# Altium integrated library Analog Devices Operational Amplifiers.IntLib: 2102 symbols (part 36 of 70)
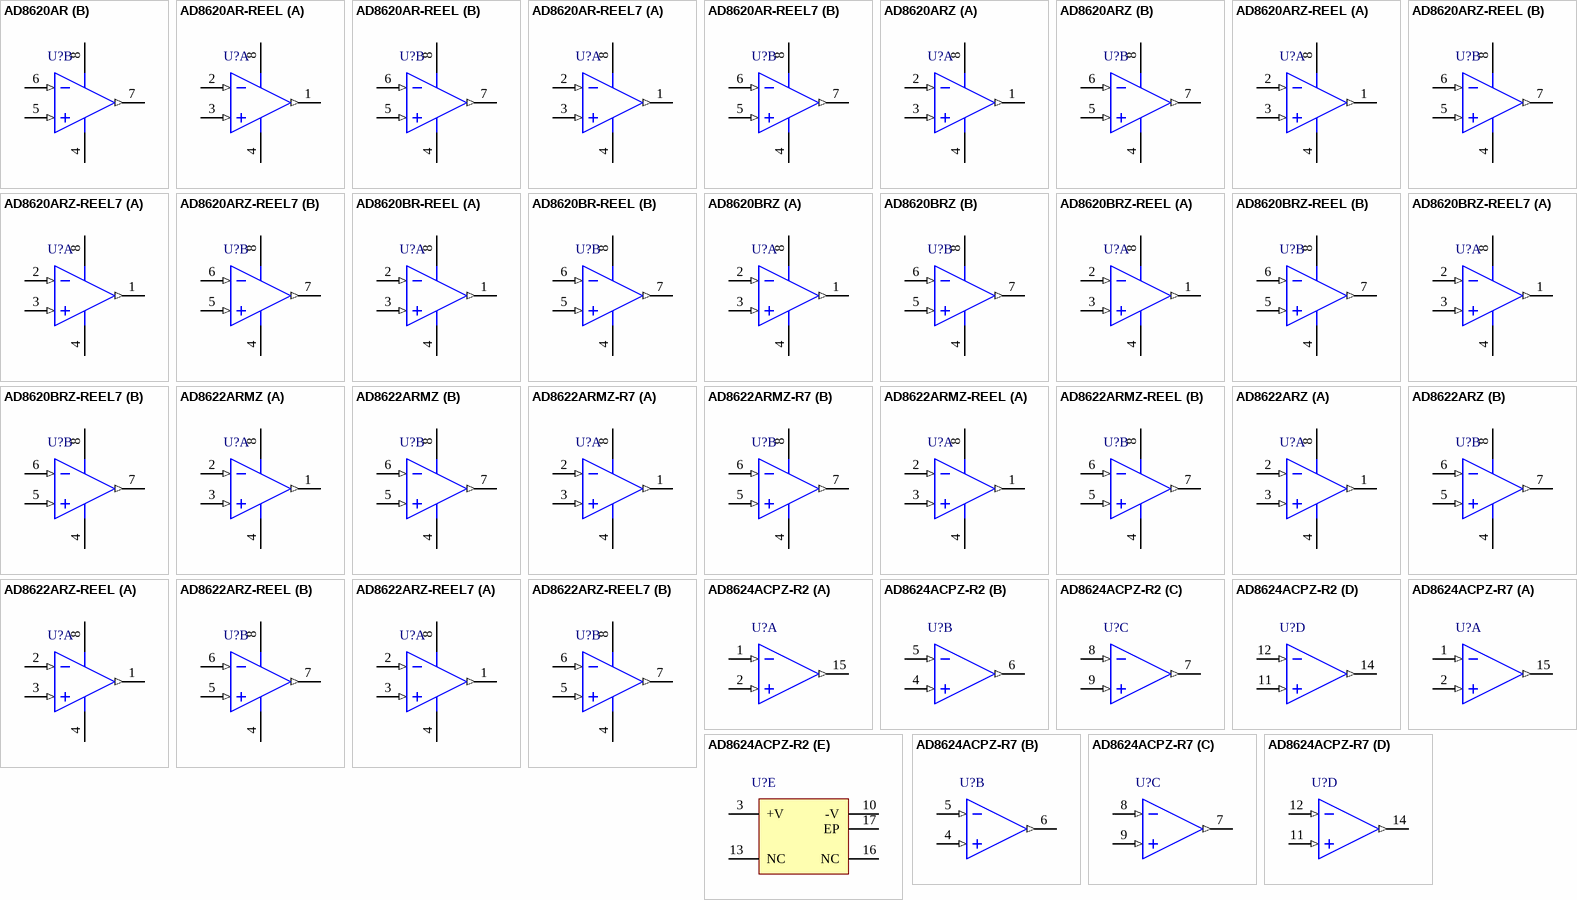
[diagram p149: symbols AD8620AR to AD8624ACPZ-R7]

## AD8620AR-REEL
designator U?
Double Channel Low Offset Voltage Operational Amplifier, 25 MHz BW, 50 V/us SR, Industrial, 8-pin SOIC (R-8), Reel; Generic Part Number: AD8620; Manufacturer: Analog Devices; PartNumber: AD8620AR-REEL; Amplifiers Per Package: 2; Input Bias Current: 2pA; Input Offset Voltage: 85uV; Iq/Amp: 3.5mA; Slew Rate: 50V/us; Small Signal Bandwidth: 25MHz; V Span Max: 27V; V Span Min: 10V; DatasheetVersion: Rev. F; PackageVersion: 060506-A; PackageReference: R-8; PackageDescription: 8-Pin Standard Small Outline Package, Body 3.9 x 4.9 mm, Pitch 1.27 mm; Supplier 1: Digi-Key; Supplier Part Number 1: AD8620AR-REEL-ND; Supplier 2: Newark; Supplier Part Number 2: 02H2009; Mounting Technology: Surface Mount; Code_JEDEC: MS-012-AA; ComponentLink1Description: Manufacturer URL; ComponentLink1URL: http://www.analog.com/en/index.html; ComponentLink2Description: Datasheet; ComponentLink2URL: http://www.analog.com/static/imported-files/data_sheets/AD8610_8620.pdf; ComponentLink3Description: Package Specification; ComponentLink3URL: http://www.analog.com/static/imported-files/packages/PKG_PDF/SOIC_Narrow%20(R)/R_8.pdf; ComponentLink4Description: Reference Circuit; ComponentLink4URL: http://www.analog.com/en/all-operational-amplifiers-op-amps/operational-amplifiers-op-amps/ad8620/products/product.html#product-recommendations
footprint ADI-R-8_N (SOIC, 8-Leads, Body 4.9x3.9mm, Pitch 1.27mm, IPC Medium Density)
footprint ADI-R-8_L (SOIC, 8-Leads, Body 4.9x3.9mm, Pitch 1.27mm, IPC High Density)
footprint ADI-R-8_M (SOIC, 8-Leads, Body 4.9x3.9mm, Pitch 1.27mm, IPC Low Density)
pins on every part: 4 -V (power), 8 +V (power)
part A pins: 1 OUT A (out), 2 -IN A (in), 3 +IN A (in)
part B pins: 5 +IN B (in), 6 -IN B (in), 7 OUT B (out)

## AD8620AR-REEL7
designator U?
Double Channel Low Offset Voltage Operational Amplifier, 25 MHz BW, 50 V/us SR, Industrial, 8-pin SOIC (R-8), Reel; Generic Part Number: AD8620; Manufacturer: Analog Devices; PartNumber: AD8620AR-REEL7; Amplifiers Per Package: 2; Input Bias Current: 2pA; Input Offset Voltage: 85uV; Iq/Amp: 3.5mA; Slew Rate: 50V/us; Small Signal Bandwidth: 25MHz; V Span Max: 27V; V Span Min: 10V; DatasheetVersion: Rev. F; PackageVersion: 060506-A; PackageReference: R-8; PackageDescription: 8-Pin Standard Small Outline Package, Body 3.9 x 4.9 mm, Pitch 1.27 mm; Supplier 1: Digi-Key; Supplier Part Number 1: AD8620AR-REEL7-ND; Mounting Technology: Surface Mount; Code_JEDEC: MS-012-AA; ComponentLink1Description: Manufacturer URL; ComponentLink1URL: http://www.analog.com/en/index.html; ComponentLink2Description: Datasheet; ComponentLink2URL: http://www.analog.com/static/imported-files/data_sheets/AD8610_8620.pdf; ComponentLink3Description: Package Specification; ComponentLink3URL: http://www.analog.com/static/imported-files/packages/PKG_PDF/SOIC_Narrow%20(R)/R_8.pdf; ComponentLink4Description: Reference Circuit; ComponentLink4URL: http://www.analog.com/en/all-operational-amplifiers-op-amps/operational-amplifiers-op-amps/ad8620/products/product.html#product-recommendations
footprint ADI-R-8_N (SOIC, 8-Leads, Body 4.9x3.9mm, Pitch 1.27mm, IPC Medium Density)
footprint ADI-R-8_L (SOIC, 8-Leads, Body 4.9x3.9mm, Pitch 1.27mm, IPC High Density)
footprint ADI-R-8_M (SOIC, 8-Leads, Body 4.9x3.9mm, Pitch 1.27mm, IPC Low Density)
pins on every part: 4 -V (power), 8 +V (power)
part A pins: 1 OUT A (out), 2 -IN A (in), 3 +IN A (in)
part B pins: 5 +IN B (in), 6 -IN B (in), 7 OUT B (out)

## AD8620ARZ
designator U?
Double Channel Low Offset Voltage Operational Amplifier, 25 MHz BW, 50 V/us SR, Industrial, 8-pin SOIC (R-8), Tube; Generic Part Number: AD8620; Manufacturer: Analog Devices; PartNumber: AD8620ARZ; Amplifiers Per Package: 2; Input Bias Current: 2pA; Input Offset Voltage: 85uV; Iq/Amp: 3.5mA; Slew Rate: 50V/us; Small Signal Bandwidth: 25MHz; V Span Max: 27V; V Span Min: 10V; DatasheetVersion: Rev. F; PackageVersion: 060506-A; PackageReference: R-8; PackageDescription: 8-Pin Standard Small Outline Package, Body 3.9 x 4.9 mm, Pitch 1.27 mm; Supplier 1: Digi-Key; Supplier Part Number 1: AD8620ARZ-ND; Supplier 2: Farnell; Supplier Part Number 2: 9994386; Supplier 3: Newark; Supplier Part Number 3: 59K6972; Mounting Technology: Surface Mount; Code_JEDEC: MS-012-AA; ComponentLink1Description: Manufacturer URL; ComponentLink1URL: http://www.analog.com/en/index.html; ComponentLink2Description: Datasheet; ComponentLink2URL: http://www.analog.com/static/imported-files/data_sheets/AD8610_8620.pdf; ComponentLink3Description: Package Specification; ComponentLink3URL: http://www.analog.com/static/imported-files/packages/PKG_PDF/SOIC_Narrow%20(R)/R_8.pdf; ComponentLink4Description: Reference Circuit; ComponentLink4URL: http://www.analog.com/en/all-operational-amplifiers-op-amps/operational-amplifiers-op-amps/ad8620/products/product.html#product-recommendations
footprint ADI-R-8_N (SOIC, 8-Leads, Body 4.9x3.9mm, Pitch 1.27mm, IPC Medium Density)
footprint ADI-R-8_L (SOIC, 8-Leads, Body 4.9x3.9mm, Pitch 1.27mm, IPC High Density)
footprint ADI-R-8_M (SOIC, 8-Leads, Body 4.9x3.9mm, Pitch 1.27mm, IPC Low Density)
pins on every part: 4 -V (power), 8 +V (power)
part A pins: 1 OUT A (out), 2 -IN A (in), 3 +IN A (in)
part B pins: 5 +IN B (in), 6 -IN B (in), 7 OUT B (out)

## AD8620ARZ-REEL
designator U?
Double Channel Low Offset Voltage Operational Amplifier, 25 MHz BW, 50 V/us SR, Industrial, 8-pin SOIC (R-8), Reel; Generic Part Number: AD8620; Manufacturer: Analog Devices; PartNumber: AD8620ARZ-REEL; Amplifiers Per Package: 2; Input Bias Current: 2pA; Input Offset Voltage: 85uV; Iq/Amp: 3.5mA; Slew Rate: 50V/us; Small Signal Bandwidth: 25MHz; V Span Max: 27V; V Span Min: 10V; DatasheetVersion: Rev. F; PackageVersion: 060506-A; PackageReference: R-8; PackageDescription: 8-Pin Standard Small Outline Package, Body 3.9 x 4.9 mm, Pitch 1.27 mm; Supplier 1: Digi-Key; Supplier Part Number 1: AD8620ARZ-REEL-ND; Supplier 2: Newark; Supplier Part Number 2: 59K6973; Mounting Technology: Surface Mount; Code_JEDEC: MS-012-AA; ComponentLink1Description: Manufacturer URL; ComponentLink1URL: http://www.analog.com/en/index.html; ComponentLink2Description: Datasheet; ComponentLink2URL: http://www.analog.com/static/imported-files/data_sheets/AD8610_8620.pdf; ComponentLink3Description: Package Specification; ComponentLink3URL: http://www.analog.com/static/imported-files/packages/PKG_PDF/SOIC_Narrow%20(R)/R_8.pdf; ComponentLink4Description: Reference Circuit; ComponentLink4URL: http://www.analog.com/en/all-operational-amplifiers-op-amps/operational-amplifiers-op-amps/ad8620/products/product.html#product-recommendations
footprint ADI-R-8_N (SOIC, 8-Leads, Body 4.9x3.9mm, Pitch 1.27mm, IPC Medium Density)
footprint ADI-R-8_L (SOIC, 8-Leads, Body 4.9x3.9mm, Pitch 1.27mm, IPC High Density)
footprint ADI-R-8_M (SOIC, 8-Leads, Body 4.9x3.9mm, Pitch 1.27mm, IPC Low Density)
pins on every part: 4 -V (power), 8 +V (power)
part A pins: 1 OUT A (out), 2 -IN A (in), 3 +IN A (in)
part B pins: 5 +IN B (in), 6 -IN B (in), 7 OUT B (out)

## AD8620ARZ-REEL7
designator U?
Double Channel Low Offset Voltage Operational Amplifier, 25 MHz BW, 50 V/us SR, Industrial, 8-pin SOIC (R-8), Reel; Generic Part Number: AD8620; Manufacturer: Analog Devices; PartNumber: AD8620ARZ-REEL7; Amplifiers Per Package: 2; Input Bias Current: 2pA; Input Offset Voltage: 85uV; Iq/Amp: 3.5mA; Slew Rate: 50V/us; Small Signal Bandwidth: 25MHz; V Span Max: 27V; V Span Min: 10V; DatasheetVersion: Rev. F; PackageVersion: 060506-A; PackageReference: R-8; PackageDescription: 8-Pin Standard Small Outline Package, Body 3.9 x 4.9 mm, Pitch 1.27 mm; Supplier 1: Digi-Key; Supplier Part Number 1: AD8620ARZ-REEL7-ND; Supplier 2: Newark; Supplier Part Number 2: 59K6974; Mounting Technology: Surface Mount; Code_JEDEC: MS-012-AA; ComponentLink1Description: Manufacturer URL; ComponentLink1URL: http://www.analog.com/en/index.html; ComponentLink2Description: Datasheet; ComponentLink2URL: http://www.analog.com/static/imported-files/data_sheets/AD8610_8620.pdf; ComponentLink3Description: Package Specification; ComponentLink3URL: http://www.analog.com/static/imported-files/packages/PKG_PDF/SOIC_Narrow%20(R)/R_8.pdf; ComponentLink4Description: Reference Circuit; ComponentLink4URL: http://www.analog.com/en/all-operational-amplifiers-op-amps/operational-amplifiers-op-amps/ad8620/products/product.html#product-recommendations
footprint ADI-R-8_N (SOIC, 8-Leads, Body 4.9x3.9mm, Pitch 1.27mm, IPC Medium Density)
footprint ADI-R-8_L (SOIC, 8-Leads, Body 4.9x3.9mm, Pitch 1.27mm, IPC High Density)
footprint ADI-R-8_M (SOIC, 8-Leads, Body 4.9x3.9mm, Pitch 1.27mm, IPC Low Density)
pins on every part: 4 -V (power), 8 +V (power)
part A pins: 1 OUT A (out), 2 -IN A (in), 3 +IN A (in)
part B pins: 5 +IN B (in), 6 -IN B (in), 7 OUT B (out)

## AD8620BR-REEL
designator U?
Double Channel Low Offset Voltage Operational Amplifier, 25 MHz BW, 50 V/us SR, Industrial, 8-pin SOIC (R-8), Reel; Generic Part Number: AD8620; Manufacturer: Analog Devices; PartNumber: AD8620BR-REEL; Amplifiers Per Package: 2; Input Bias Current: 2pA; Input Offset Voltage: 85uV; Iq/Amp: 3.5mA; Slew Rate: 50V/us; Small Signal Bandwidth: 25MHz; V Span Max: 27V; V Span Min: 10V; DatasheetVersion: Rev. F; PackageVersion: 060506-A; PackageReference: R-8; PackageDescription: 8-Pin Standard Small Outline Package, Body 3.9 x 4.9 mm, Pitch 1.27 mm; Supplier 1: Digi-Key; Supplier Part Number 1: AD8620BR-REEL-ND; Supplier 2: Newark; Supplier Part Number 2: 50H3283; Mounting Technology: Surface Mount; Code_JEDEC: MS-012-AA; ComponentLink1Description: Manufacturer URL; ComponentLink1URL: http://www.analog.com/en/index.html; ComponentLink2Description: Datasheet; ComponentLink2URL: http://www.analog.com/static/imported-files/data_sheets/AD8610_8620.pdf; ComponentLink3Description: Package Specification; ComponentLink3URL: http://www.analog.com/static/imported-files/packages/PKG_PDF/SOIC_Narrow%20(R)/R_8.pdf; ComponentLink4Description: Reference Circuit; ComponentLink4URL: http://www.analog.com/en/all-operational-amplifiers-op-amps/operational-amplifiers-op-amps/ad8620/products/product.html#product-recommendations
footprint ADI-R-8_N (SOIC, 8-Leads, Body 4.9x3.9mm, Pitch 1.27mm, IPC Medium Density)
footprint ADI-R-8_L (SOIC, 8-Leads, Body 4.9x3.9mm, Pitch 1.27mm, IPC High Density)
footprint ADI-R-8_M (SOIC, 8-Leads, Body 4.9x3.9mm, Pitch 1.27mm, IPC Low Density)
pins on every part: 4 -V (power), 8 +V (power)
part A pins: 1 OUT A (out), 2 -IN A (in), 3 +IN A (in)
part B pins: 5 +IN B (in), 6 -IN B (in), 7 OUT B (out)

## AD8620BRZ
designator U?
Double Channel Low Offset Voltage Operational Amplifier, 25 MHz BW, 50 V/us SR, Industrial, 8-pin SOIC (R-8), Tube; Generic Part Number: AD8620; Manufacturer: Analog Devices; PartNumber: AD8620BRZ; Amplifiers Per Package: 2; Input Bias Current: 2pA; Input Offset Voltage: 85uV; Iq/Amp: 3.5mA; Slew Rate: 50V/us; Small Signal Bandwidth: 25MHz; V Span Max: 27V; V Span Min: 10V; DatasheetVersion: Rev. F; PackageVersion: 060506-A; PackageReference: R-8; PackageDescription: 8-Pin Standard Small Outline Package, Body 3.9 x 4.9 mm, Pitch 1.27 mm; Supplier 1: Digi-Key; Supplier Part Number 1: AD8620BRZ-ND; Supplier 2: Newark; Supplier Part Number 2: 59K6975; Mounting Technology: Surface Mount; Code_JEDEC: MS-012-AA; ComponentLink1Description: Manufacturer URL; ComponentLink1URL: http://www.analog.com/en/index.html; ComponentLink2Description: Datasheet; ComponentLink2URL: http://www.analog.com/static/imported-files/data_sheets/AD8610_8620.pdf; ComponentLink3Description: Package Specification; ComponentLink3URL: http://www.analog.com/static/imported-files/packages/PKG_PDF/SOIC_Narrow%20(R)/R_8.pdf; ComponentLink4Description: Reference Circuit; ComponentLink4URL: http://www.analog.com/en/all-operational-amplifiers-op-amps/operational-amplifiers-op-amps/ad8620/products/product.html#product-recommendations
footprint ADI-R-8_N (SOIC, 8-Leads, Body 4.9x3.9mm, Pitch 1.27mm, IPC Medium Density)
footprint ADI-R-8_L (SOIC, 8-Leads, Body 4.9x3.9mm, Pitch 1.27mm, IPC High Density)
footprint ADI-R-8_M (SOIC, 8-Leads, Body 4.9x3.9mm, Pitch 1.27mm, IPC Low Density)
pins on every part: 4 -V (power), 8 +V (power)
part A pins: 1 OUT A (out), 2 -IN A (in), 3 +IN A (in)
part B pins: 5 +IN B (in), 6 -IN B (in), 7 OUT B (out)

## AD8620BRZ-REEL
designator U?
Double Channel Low Offset Voltage Operational Amplifier, 25 MHz BW, 50 V/us SR, Industrial, 8-pin SOIC (R-8), Reel; Generic Part Number: AD8620; Manufacturer: Analog Devices; PartNumber: AD8620BRZ-REEL; Amplifiers Per Package: 2; Input Bias Current: 2pA; Input Offset Voltage: 85uV; Iq/Amp: 3.5mA; Slew Rate: 50V/us; Small Signal Bandwidth: 25MHz; V Span Max: 27V; V Span Min: 10V; DatasheetVersion: Rev. F; PackageVersion: 060506-A; PackageReference: R-8; PackageDescription: 8-Pin Standard Small Outline Package, Body 3.9 x 4.9 mm, Pitch 1.27 mm; Supplier 1: Digi-Key; Supplier Part Number 1: AD8620BRZ-REEL-ND; Mounting Technology: Surface Mount; Code_JEDEC: MS-012-AA; ComponentLink1Description: Manufacturer URL; ComponentLink1URL: http://www.analog.com/en/index.html; ComponentLink2Description: Datasheet; ComponentLink2URL: http://www.analog.com/static/imported-files/data_sheets/AD8610_8620.pdf; ComponentLink3Description: Package Specification; ComponentLink3URL: http://www.analog.com/static/imported-files/packages/PKG_PDF/SOIC_Narrow%20(R)/R_8.pdf; ComponentLink4Description: Reference Circuit; ComponentLink4URL: http://www.analog.com/en/all-operational-amplifiers-op-amps/operational-amplifiers-op-amps/ad8620/products/product.html#product-recommendations
footprint ADI-R-8_N (SOIC, 8-Leads, Body 4.9x3.9mm, Pitch 1.27mm, IPC Medium Density)
footprint ADI-R-8_L (SOIC, 8-Leads, Body 4.9x3.9mm, Pitch 1.27mm, IPC High Density)
footprint ADI-R-8_M (SOIC, 8-Leads, Body 4.9x3.9mm, Pitch 1.27mm, IPC Low Density)
pins on every part: 4 -V (power), 8 +V (power)
part A pins: 1 OUT A (out), 2 -IN A (in), 3 +IN A (in)
part B pins: 5 +IN B (in), 6 -IN B (in), 7 OUT B (out)

## AD8620BRZ-REEL7
designator U?
Double Channel Low Offset Voltage Operational Amplifier, 25 MHz BW, 50 V/us SR, Industrial, 8-pin SOIC (R-8), Reel; Generic Part Number: AD8620; Manufacturer: Analog Devices; PartNumber: AD8620BRZ-REEL7; Amplifiers Per Package: 2; Input Bias Current: 2pA; Input Offset Voltage: 85uV; Iq/Amp: 3.5mA; Slew Rate: 50V/us; Small Signal Bandwidth: 25MHz; V Span Max: 27V; V Span Min: 10V; DatasheetVersion: Rev. F; PackageVersion: 060506-A; PackageReference: R-8; PackageDescription: 8-Pin Standard Small Outline Package, Body 3.9 x 4.9 mm, Pitch 1.27 mm; Supplier 1: Digi-Key; Supplier Part Number 1: AD8620BRZ-REEL7-ND; Mounting Technology: Surface Mount; Code_JEDEC: MS-012-AA; ComponentLink1Description: Manufacturer URL; ComponentLink1URL: http://www.analog.com/en/index.html; ComponentLink2Description: Datasheet; ComponentLink2URL: http://www.analog.com/static/imported-files/data_sheets/AD8610_8620.pdf; ComponentLink3Description: Package Specification; ComponentLink3URL: http://www.analog.com/static/imported-files/packages/PKG_PDF/SOIC_Narrow%20(R)/R_8.pdf; ComponentLink4Description: Reference Circuit; ComponentLink4URL: http://www.analog.com/en/all-operational-amplifiers-op-amps/operational-amplifiers-op-amps/ad8620/products/product.html#product-recommendations
footprint ADI-R-8_N (SOIC, 8-Leads, Body 4.9x3.9mm, Pitch 1.27mm, IPC Medium Density)
footprint ADI-R-8_L (SOIC, 8-Leads, Body 4.9x3.9mm, Pitch 1.27mm, IPC High Density)
footprint ADI-R-8_M (SOIC, 8-Leads, Body 4.9x3.9mm, Pitch 1.27mm, IPC Low Density)
pins on every part: 4 -V (power), 8 +V (power)
part A pins: 1 OUT A (out), 2 -IN A (in), 3 +IN A (in)
part B pins: 5 +IN B (in), 6 -IN B (in), 7 OUT B (out)

## AD8622ARMZ
designator U?
Double Channel Rail-to-Rail Operational Amplifier, 560 KHz BW, 280 mV/us SR, Industrial, 8-pin SOP (RM-8), Tube; Generic Part Number: AD8622; Manufacturer: Analog Devices; PartNumber: AD8622ARMZ; Amplifiers Per Package: 2; Input Bias Current: 45pA; Input Offset Voltage: 10uV; Iq/Amp: 215uA; Small Signal Bandwidth: 560KHz; V Span Max: 30V; V Span Min: 5V; DatasheetVersion: Rev. C; PackageReference: RM-8; PackageDescription: 8-Pin Mini Small Outline Package, Body 3 x 3 mm, Pitch 0.65 mm; Supplier 1: Digi-Key; Supplier Part Number 1: AD8622ARMZ-ND; Supplier 2: Newark; Supplier Part Number 2: 26R2477; Slew Rate: 280mV/us; Mounting Technology: Surface Mount; Code_JEDEC: MO-187-AA; ComponentLink1Description: Manufacturer URL; ComponentLink1URL: http://www.analog.com/en/index.html; ComponentLink2Description: Datasheet; ComponentLink2URL: http://www.analog.com/static/imported-files/data_sheets/AD8622_8624.pdf; ComponentLink3Description: Package Specification; ComponentLink3URL: http://www.analog.com/static/imported-files/packages/PKG_PDF/MSOP%28RM%29/RM_8.pdf; ComponentLink4Description: Reference Circuit; ComponentLink4URL: http://www.analog.com/en/all-operational-amplifiers-op-amps/operational-amplifiers-op-amps/ad8622/products/product.html#product-recommendations
footprint ADI-RM-8_N (SOP, 8-Leads, Body 3x3mm, Pitch 0.65mm, IPC Medium Density)
footprint ADI-RM-8_L (SOP, 8-Leads, Body 3x3mm, Pitch 0.65mm, IPC High Density)
footprint ADI-RM-8_M (SOP, 8-Leads, Body 3x3mm, Pitch 0.65mm, IPC Low Density)
pins on every part: 4 -V (power), 8 +V (power)
part A pins: 1 OUT A (out), 2 -IN A (in), 3 +IN A (in)
part B pins: 5 +IN B (in), 6 -IN B (in), 7 OUT B (out)

## AD8622ARMZ-R7
designator U?
Double Channel Rail-to-Rail Operational Amplifier, 560 KHz BW, 280 mV/us SR, Industrial, 8-pin SOP (RM-8), Reel; Generic Part Number: AD8622; Manufacturer: Analog Devices; PartNumber: AD8622ARMZ-R7; Amplifiers Per Package: 2; Input Bias Current: 45pA; Input Offset Voltage: 10uV; Iq/Amp: 215uA; Small Signal Bandwidth: 560KHz; V Span Max: 30V; V Span Min: 5V; DatasheetVersion: Rev. C; PackageReference: RM-8; PackageDescription: 8-Pin Mini Small Outline Package, Body 3 x 3 mm, Pitch 0.65 mm; Supplier 1: Digi-Key; Supplier Part Number 1: AD8622ARMZ-R7TR-ND; Supplier 2: Digi-Key; Supplier Part Number 2: AD8622ARMZ-R7CT-ND; Supplier 3: Digi-Key; Supplier Part Number 3: AD8622ARMZ-R7DKR-ND; Supplier 4: Newark; Supplier Part Number 4: 26R2479; Slew Rate: 280mV/us; Mounting Technology: Surface Mount; Code_JEDEC: MO-187-AA; ComponentLink1Description: Manufacturer URL; ComponentLink1URL: http://www.analog.com/en/index.html; ComponentLink2Description: Datasheet; ComponentLink2URL: http://www.analog.com/static/imported-files/data_sheets/AD8622_8624.pdf; ComponentLink3Description: Package Specification; ComponentLink3URL: http://www.analog.com/static/imported-files/packages/PKG_PDF/MSOP%28RM%29/RM_8.pdf; ComponentLink4Description: Reference Circuit; ComponentLink4URL: http://www.analog.com/en/all-operational-amplifiers-op-amps/operational-amplifiers-op-amps/ad8622/products/product.html#product-recommendations
footprint ADI-RM-8_N (SOP, 8-Leads, Body 3x3mm, Pitch 0.65mm, IPC Medium Density)
footprint ADI-RM-8_L (SOP, 8-Leads, Body 3x3mm, Pitch 0.65mm, IPC High Density)
footprint ADI-RM-8_M (SOP, 8-Leads, Body 3x3mm, Pitch 0.65mm, IPC Low Density)
pins on every part: 4 -V (power), 8 +V (power)
part A pins: 1 OUT A (out), 2 -IN A (in), 3 +IN A (in)
part B pins: 5 +IN B (in), 6 -IN B (in), 7 OUT B (out)

## AD8622ARMZ-REEL
designator U?
Double Channel Rail-to-Rail Operational Amplifier, 560 KHz BW, 280 mV/us SR, Industrial, 8-pin SOP (RM-8), Reel; Generic Part Number: AD8622; Manufacturer: Analog Devices; PartNumber: AD8622ARMZ-REEL; Amplifiers Per Package: 2; Input Bias Current: 45pA; Input Offset Voltage: 10uV; Iq/Amp: 215uA; Small Signal Bandwidth: 560KHz; V Span Max: 30V; V Span Min: 5V; DatasheetVersion: Rev. C; PackageReference: RM-8; PackageDescription: 8-Pin Mini Small Outline Package, Body 3 x 3 mm, Pitch 0.65 mm; Supplier 1: Digi-Key; Supplier Part Number 1: AD8622ARMZ-REEL-ND; Supplier 2: Newark; Supplier Part Number 2: 26R2478; Slew Rate: 280mV/us; Mounting Technology: Surface Mount; Code_JEDEC: MO-187-AA; ComponentLink1Description: Manufacturer URL; ComponentLink1URL: http://www.analog.com/en/index.html; ComponentLink2Description: Datasheet; ComponentLink2URL: http://www.analog.com/static/imported-files/data_sheets/AD8622_8624.pdf; ComponentLink3Description: Package Specification; ComponentLink3URL: http://www.analog.com/static/imported-files/packages/PKG_PDF/MSOP%28RM%29/RM_8.pdf; ComponentLink4Description: Reference Circuit; ComponentLink4URL: http://www.analog.com/en/all-operational-amplifiers-op-amps/operational-amplifiers-op-amps/ad8622/products/product.html#product-recommendations
footprint ADI-RM-8_N (SOP, 8-Leads, Body 3x3mm, Pitch 0.65mm, IPC Medium Density)
footprint ADI-RM-8_L (SOP, 8-Leads, Body 3x3mm, Pitch 0.65mm, IPC High Density)
footprint ADI-RM-8_M (SOP, 8-Leads, Body 3x3mm, Pitch 0.65mm, IPC Low Density)
pins on every part: 4 -V (power), 8 +V (power)
part A pins: 1 OUT A (out), 2 -IN A (in), 3 +IN A (in)
part B pins: 5 +IN B (in), 6 -IN B (in), 7 OUT B (out)

## AD8622ARZ
designator U?
Double Channel Rail-to-Rail Operational Amplifier, 560 KHz BW, 280 mV/us SR, Industrial, 8-pin SOIC (R-8), Tube; Generic Part Number: AD8622; Manufacturer: Analog Devices; PartNumber: AD8622ARZ; Amplifiers Per Package: 2; Input Bias Current: 45pA; Input Offset Voltage: 10uV; Iq/Amp: 215uA; Small Signal Bandwidth: 560KHz; V Span Max: 30V; V Span Min: 5V; DatasheetVersion: Rev. C; PackageVersion: 060506-A; PackageReference: R-8; PackageDescription: 8-Pin Standard Small Outline Package, Body 3.9 x 4.9 mm, Pitch 1.27 mm; Supplier 1: Digi-Key; Supplier Part Number 1: AD8622ARZ-ND; Supplier 2: Farnell; Supplier Part Number 2: 1827389; Supplier 3: Newark; Supplier Part Number 3: 80R8182; Supplier 4: Newark; Supplier Part Number 4: 26R2480; Slew Rate: 280mV/us; Mounting Technology: Surface Mount; Code_JEDEC: MS-012-AA; ComponentLink1Description: Manufacturer URL; ComponentLink1URL: http://www.analog.com/en/index.html; ComponentLink2Description: Datasheet; ComponentLink2URL: http://www.analog.com/static/imported-files/data_sheets/AD8622_8624.pdf; ComponentLink3Description: Package Specification; ComponentLink3URL: http://www.analog.com/static/imported-files/packages/PKG_PDF/SOIC_Narrow%20(R)/R_8.pdf; ComponentLink4Description: Reference Circuit; ComponentLink4URL: http://www.analog.com/en/all-operational-amplifiers-op-amps/operational-amplifiers-op-amps/ad8622/products/product.html#product-recommendations
footprint ADI-R-8_N (SOIC, 8-Leads, Body 4.9x3.9mm, Pitch 1.27mm, IPC Medium Density)
footprint ADI-R-8_L (SOIC, 8-Leads, Body 4.9x3.9mm, Pitch 1.27mm, IPC High Density)
footprint ADI-R-8_M (SOIC, 8-Leads, Body 4.9x3.9mm, Pitch 1.27mm, IPC Low Density)
pins on every part: 4 -V (power), 8 +V (power)
part A pins: 1 OUT A (out), 2 -IN A (in), 3 +IN A (in)
part B pins: 5 +IN B (in), 6 -IN B (in), 7 OUT B (out)

## AD8622ARZ-REEL
designator U?
Double Channel Rail-to-Rail Operational Amplifier, 560 KHz BW, 280 mV/us SR, Industrial, 8-pin SOIC (R-8), Reel; Generic Part Number: AD8622; Manufacturer: Analog Devices; PartNumber: AD8622ARZ-REEL; Amplifiers Per Package: 2; Input Bias Current: 45pA; Input Offset Voltage: 10uV; Iq/Amp: 215uA; Small Signal Bandwidth: 560KHz; V Span Max: 30V; V Span Min: 5V; DatasheetVersion: Rev. C; PackageVersion: 060506-A; PackageReference: R-8; PackageDescription: 8-Pin Standard Small Outline Package, Body 3.9 x 4.9 mm, Pitch 1.27 mm; Supplier 1: Digi-Key; Supplier Part Number 1: AD8622ARZ-REEL-ND; Supplier 2: Newark; Supplier Part Number 2: 26R2481; Slew Rate: 280mV/us; Mounting Technology: Surface Mount; Code_JEDEC: MS-012-AA; ComponentLink1Description: Manufacturer URL; ComponentLink1URL: http://www.analog.com/en/index.html; ComponentLink2Description: Datasheet; ComponentLink2URL: http://www.analog.com/static/imported-files/data_sheets/AD8622_8624.pdf; ComponentLink3Description: Package Specification; ComponentLink3URL: http://www.analog.com/static/imported-files/packages/PKG_PDF/SOIC_Narrow%20(R)/R_8.pdf; ComponentLink4Description: Reference Circuit; ComponentLink4URL: http://www.analog.com/en/all-operational-amplifiers-op-amps/operational-amplifiers-op-amps/ad8622/products/product.html#product-recommendations
footprint ADI-R-8_N (SOIC, 8-Leads, Body 4.9x3.9mm, Pitch 1.27mm, IPC Medium Density)
footprint ADI-R-8_L (SOIC, 8-Leads, Body 4.9x3.9mm, Pitch 1.27mm, IPC High Density)
footprint ADI-R-8_M (SOIC, 8-Leads, Body 4.9x3.9mm, Pitch 1.27mm, IPC Low Density)
pins on every part: 4 -V (power), 8 +V (power)
part A pins: 1 OUT A (out), 2 -IN A (in), 3 +IN A (in)
part B pins: 5 +IN B (in), 6 -IN B (in), 7 OUT B (out)

## AD8622ARZ-REEL7
designator U?
Double Channel Rail-to-Rail Operational Amplifier, 560 KHz BW, 280 mV/us SR, Industrial, 8-pin SOIC (R-8), Reel; Generic Part Number: AD8622; Manufacturer: Analog Devices; PartNumber: AD8622ARZ-REEL7; Amplifiers Per Package: 2; Input Bias Current: 45pA; Input Offset Voltage: 10uV; Iq/Amp: 215uA; Small Signal Bandwidth: 560KHz; V Span Max: 30V; V Span Min: 5V; DatasheetVersion: Rev. C; PackageVersion: 060506-A; PackageReference: R-8; PackageDescription: 8-Pin Standard Small Outline Package, Body 3.9 x 4.9 mm, Pitch 1.27 mm; Supplier 1: Digi-Key; Supplier Part Number 1: AD8622ARZ-REEL7TR-ND; Supplier 2: Digi-Key; Supplier Part Number 2: AD8622ARZ-REEL7CT-ND; Supplier 3: Digi-Key; Supplier Part Number 3: AD8622ARZ-REEL7DKR-ND; Supplier 4: Newark; Supplier Part Number 4: 26R2482; Slew Rate: 280mV/us; Mounting Technology: Surface Mount; Code_JEDEC: MS-012-AA; ComponentLink1Description: Manufacturer URL; ComponentLink1URL: http://www.analog.com/en/index.html; ComponentLink2Description: Datasheet; ComponentLink2URL: http://www.analog.com/static/imported-files/data_sheets/AD8622_8624.pdf; ComponentLink3Description: Package Specification; ComponentLink3URL: http://www.analog.com/static/imported-files/packages/PKG_PDF/SOIC_Narrow%20(R)/R_8.pdf; ComponentLink4Description: Reference Circuit; ComponentLink4URL: http://www.analog.com/en/all-operational-amplifiers-op-amps/operational-amplifiers-op-amps/ad8622/products/product.html#product-recommendations
footprint ADI-R-8_N (SOIC, 8-Leads, Body 4.9x3.9mm, Pitch 1.27mm, IPC Medium Density)
footprint ADI-R-8_L (SOIC, 8-Leads, Body 4.9x3.9mm, Pitch 1.27mm, IPC High Density)
footprint ADI-R-8_M (SOIC, 8-Leads, Body 4.9x3.9mm, Pitch 1.27mm, IPC Low Density)
pins on every part: 4 -V (power), 8 +V (power)
part A pins: 1 OUT A (out), 2 -IN A (in), 3 +IN A (in)
part B pins: 5 +IN B (in), 6 -IN B (in), 7 OUT B (out)

## AD8624ACPZ-R2
designator U?
Quad Channel Low Offset Voltage Operational Amplifier, 560 KHz BW, 480 mV/us SR, Industrial, 16-pin QFN (CP-16-17), Reel; Generic Part Number: AD8624; Manufacturer: Analog Devices; PartNumber: AD8624ACPZ-R2; Amplifiers Per Package: 4; Input Bias Current: 45pA; Input Offset Voltage: 10uV; Iq/Amp: 215uA; Small Signal Bandwidth: 560KHz; V Span Max: 36V; V Span Min: 4V; DatasheetVersion: Rev. C; PackageVersion: 08-16-2010-C; PackageReference: CP-16-17; PackageDescription: 16-Pin Lead Frame Chip Scale Package, Body 4 x 4 mm, Pitch 0.65 mm; Supplier 1: Digi-Key; Supplier Part Number 1: AD8624ACPZ-R2TR-ND; Supplier 2: Digi-Key; Supplier Part Number 2: AD8624ACPZ-R2CT-ND; Supplier 3: Digi-Key; Supplier Part Number 3: AD8624ACPZ-R2DKR-ND; Supplier 4: Farnell; Supplier Part Number 4: 1827372; Supplier 5: Newark; Supplier Part Number 5: 80R8183; Supplier 6: Newark; Supplier Part Number 6: 67R2268; Packing: Reel; Slew Rate: 480mV/us; Mounting Technology: Surface Mount; Code_JEDEC: MO-220-WGGC; ComponentLink1Description: Manufacturer URL; ComponentLink1URL: http://www.analog.com/en/index.html; ComponentLink2Description: Datasheet; ComponentLink2URL: http://www.analog.com/static/imported-files/data_sheets/AD8622_8624.pdf; ComponentLink3Description: Package Specification; ComponentLink3URL: http://www.analog.com/static/imported-files/packages/PKG_PDF/LFCSP(CP)/CP_16_17.pdf
footprint ADI-CP-16-17_N (QFN, 16-Leads, Body 4x4mm, Pitch 0.65mm, Thermal Pad 2.60x2.60mm, IPC Medium Density)
footprint ADI-CP-16-17_L (QFN, 16-Leads, Body 4x4mm, Pitch 0.65mm, Thermal Pad 2.60x2.60mm, IPC High Density)
footprint ADI-CP-16-17_M (QFN, 16-Leads, Body 4x4mm, Pitch 0.65mm, Thermal Pad 2.60x2.60mm, IPC Low Density)
part A pins: 1 -IN A (in), 2 +IN A (in), 15 OUT A (out)
part B pins: 4 +IN B (in), 5 -IN B (in), 6 OUT B (out)
part C pins: 7 OUT C (out), 8 -IN C (in), 9 +IN C (in)
part D pins: 11 +IN D (in), 12 -IN D (in), 14 OUT D (out)
part E pins: 3 +V (power), 10 -V (power), 13 NC, 16 NC, 17 EP (power) "IT IS RECOMMENDED THAT THE EXPOSED PAD BE CONNECTED TO V-."

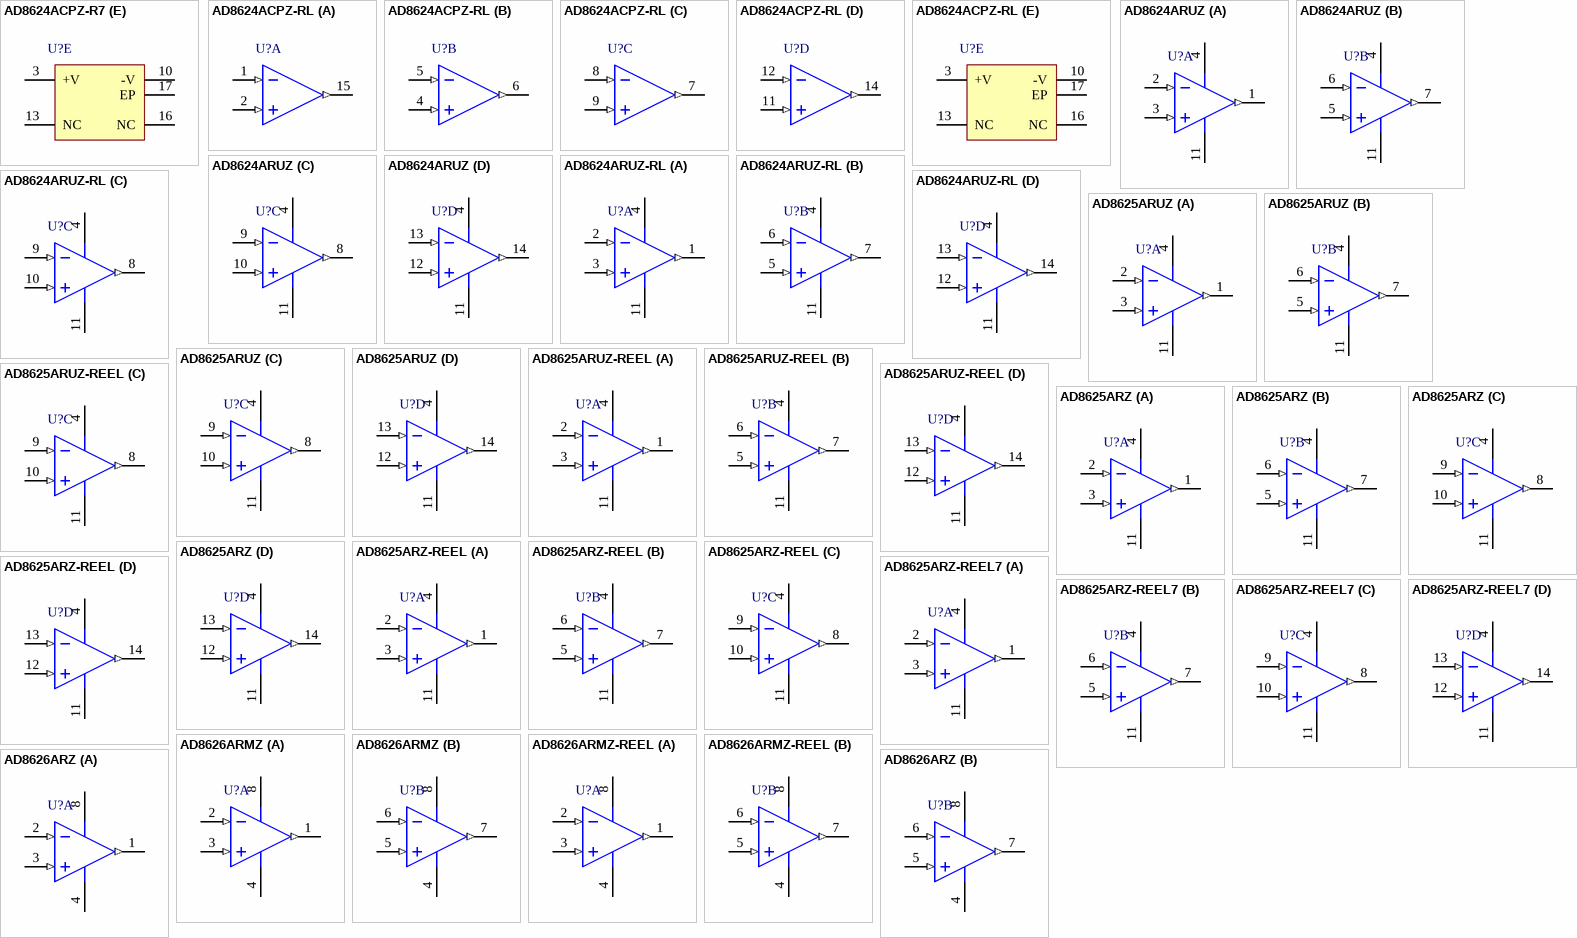
[diagram p55: symbols AD8624ACPZ-R7 to AD8626ARZ]

## AD8624ACPZ-R7
designator U?
Quad Channel Low Offset Voltage Operational Amplifier, 560 KHz BW, 480 mV/us SR, Industrial, 16-pin QFN (CP-16-17), Reel; Generic Part Number: AD8624; Manufacturer: Analog Devices; PartNumber: AD8624ACPZ-R7; Amplifiers Per Package: 4; Input Bias Current: 45pA; Input Offset Voltage: 10uV; Iq/Amp: 215uA; Small Signal Bandwidth: 560KHz; V Span Max: 36V; V Span Min: 4V; DatasheetVersion: Rev. C; PackageVersion: 08-16-2010-C; PackageReference: CP-16-17; PackageDescription: 16-Pin Lead Frame Chip Scale Package, Body 4 x 4 mm, Pitch 0.65 mm; Supplier 1: Digi-Key; Supplier Part Number 1: AD8624ACPZ-R7-ND; Supplier 2: Newark; Supplier Part Number 2: 67R2269; Packing: Reel; Slew Rate: 480mV/us; Mounting Technology: Surface Mount; Code_JEDEC: MO-220-WGGC; ComponentLink1Description: Manufacturer URL; ComponentLink1URL: http://www.analog.com/en/index.html; ComponentLink2Description: Datasheet; ComponentLink2URL: http://www.analog.com/static/imported-files/data_sheets/AD8622_8624.pdf; ComponentLink3Description: Package Specification; ComponentLink3URL: http://www.analog.com/static/imported-files/packages/PKG_PDF/LFCSP(CP)/CP_16_17.pdf
footprint ADI-CP-16-17_N (QFN, 16-Leads, Body 4x4mm, Pitch 0.65mm, Thermal Pad 2.60x2.60mm, IPC Medium Density)
footprint ADI-CP-16-17_L (QFN, 16-Leads, Body 4x4mm, Pitch 0.65mm, Thermal Pad 2.60x2.60mm, IPC High Density)
footprint ADI-CP-16-17_M (QFN, 16-Leads, Body 4x4mm, Pitch 0.65mm, Thermal Pad 2.60x2.60mm, IPC Low Density)
part A pins: 1 -IN A (in), 2 +IN A (in), 15 OUT A (out)
part B pins: 4 +IN B (in), 5 -IN B (in), 6 OUT B (out)
part C pins: 7 OUT C (out), 8 -IN C (in), 9 +IN C (in)
part D pins: 11 +IN D (in), 12 -IN D (in), 14 OUT D (out)
part E pins: 3 +V (power), 10 -V (power), 13 NC, 16 NC, 17 EP (power) "IT IS RECOMMENDED THAT THE EXPOSED PAD BE CONNECTED TO V-."

## AD8624ACPZ-RL
designator U?
Quad Channel Low Offset Voltage Operational Amplifier, 560 KHz BW, 480 mV/us SR, Industrial, 16-pin QFN (CP-16-17), Reel; Generic Part Number: AD8624; Manufacturer: Analog Devices; PartNumber: AD8624ACPZ-RL; Amplifiers Per Package: 4; Input Bias Current: 45pA; Input Offset Voltage: 10uV; Iq/Amp: 215uA; Small Signal Bandwidth: 560KHz; V Span Max: 36V; V Span Min: 4V; DatasheetVersion: Rev. C; PackageVersion: 08-16-2010-C; PackageReference: CP-16-17; PackageDescription: 16-Pin Lead Frame Chip Scale Package, Body 4 x 4 mm, Pitch 0.65 mm; Supplier 1: Digi-Key; Supplier Part Number 1: AD8624ACPZ-RL-ND; Supplier 2: Newark; Supplier Part Number 2: 67R2267; Packing: Reel; Slew Rate: 480mV/us; Mounting Technology: Surface Mount; Code_JEDEC: MO-220-WGGC; ComponentLink1Description: Manufacturer URL; ComponentLink1URL: http://www.analog.com/en/index.html; ComponentLink2Description: Datasheet; ComponentLink2URL: http://www.analog.com/static/imported-files/data_sheets/AD8622_8624.pdf; ComponentLink3Description: Package Specification; ComponentLink3URL: http://www.analog.com/static/imported-files/packages/PKG_PDF/LFCSP(CP)/CP_16_17.pdf
footprint ADI-CP-16-17_N (QFN, 16-Leads, Body 4x4mm, Pitch 0.65mm, Thermal Pad 2.60x2.60mm, IPC Medium Density)
footprint ADI-CP-16-17_L (QFN, 16-Leads, Body 4x4mm, Pitch 0.65mm, Thermal Pad 2.60x2.60mm, IPC High Density)
footprint ADI-CP-16-17_M (QFN, 16-Leads, Body 4x4mm, Pitch 0.65mm, Thermal Pad 2.60x2.60mm, IPC Low Density)
part A pins: 1 -IN A (in), 2 +IN A (in), 15 OUT A (out)
part B pins: 4 +IN B (in), 5 -IN B (in), 6 OUT B (out)
part C pins: 7 OUT C (out), 8 -IN C (in), 9 +IN C (in)
part D pins: 11 +IN D (in), 12 -IN D (in), 14 OUT D (out)
part E pins: 3 +V (power), 10 -V (power), 13 NC, 16 NC, 17 EP (power) "IT IS RECOMMENDED THAT THE EXPOSED PAD BE CONNECTED TO V-."

## AD8624ARUZ
designator U?
Quad Channel Low Offset Voltage Operational Amplifier, 560 KHz BW, 480 mV/us SR, Industrial, 14-pin SOP (RU-14), Tube; Generic Part Number: AD8624; Manufacturer: Analog Devices; PartNumber: AD8624ARUZ; Amplifiers Per Package: 4; Input Bias Current: 45pA; Input Offset Voltage: 10uV; Iq/Amp: 215uA; Small Signal Bandwidth: 560KHz; V Span Max: 36V; V Span Min: 4V; DatasheetVersion: Rev. C; PackageReference: RU-14; PackageDescription: 14-Pin Thin Shrink Small Outline Package, Body 5 x 4.4 mm, Pitch 0.65 mm; Supplier 1: Digi-Key; Supplier Part Number 1: AD8624ARUZ-ND; Supplier 2: Farnell; Supplier Part Number 2: 1827371; Supplier 3: Newark; Supplier Part Number 3: 67R2270; Packing: Tube; Slew Rate: 480mV/us; Mounting Technology: Surface Mount; Code_JEDEC: MO-153AB-1; ComponentLink1Description: Manufacturer URL; ComponentLink1URL: http://www.analog.com/en/index.html; ComponentLink2Description: Datasheet; ComponentLink2URL: http://www.analog.com/static/imported-files/data_sheets/AD8622_8624.pdf; ComponentLink3Description: Package Specification; ComponentLink3URL: http://www.analog.com/static/imported-files/packages/36057385283879153717235186773RU14.pdf
footprint ADI-RU-14_N (SOP, 14-Leads, Body 5x4.4mm, Pitch 0.65mm, IPC Medium Density)
footprint ADI-RU-14_L (SOP, 14-Leads, Body 5x4.4mm, Pitch 0.65mm, IPC High Density)
footprint ADI-RU-14_M (SOP, 14-Leads, Body 5x4.4mm, Pitch 0.65mm, IPC Low Density)
pins on every part: 4 +V (power), 11 -V (power)
part A pins: 1 OUT A (out), 2 -IN A (in), 3 +IN A (in)
part B pins: 5 +IN B (in), 6 -IN B (in), 7 OUT B (out)
part C pins: 8 OUT C (out), 9 -IN C (in), 10 +IN C (in)
part D pins: 12 +IN D (in), 13 -IN D (in), 14 OUT D (out)

## AD8624ARUZ-RL
designator U?
Quad Channel Low Offset Voltage Operational Amplifier, 560 KHz BW, 480 mV/us SR, Industrial, 14-pin SOP (RU-14), Reel; Generic Part Number: AD8624; Manufacturer: Analog Devices; PartNumber: AD8624ARUZ-RL; Amplifiers Per Package: 4; Input Bias Current: 45pA; Input Offset Voltage: 10uV; Iq/Amp: 215uA; Small Signal Bandwidth: 560KHz; V Span Max: 36V; V Span Min: 4V; DatasheetVersion: Rev. C; PackageReference: RU-14; PackageDescription: 14-Pin Thin Shrink Small Outline Package, Body 5 x 4.4 mm, Pitch 0.65 mm; Supplier 1: Digi-Key; Supplier Part Number 1: AD8624ARUZ-RL-ND; Supplier 2: Newark; Supplier Part Number 2: 67R2271; Packing: Reel; Slew Rate: 480mV/us; Mounting Technology: Surface Mount; Code_JEDEC: MO-153AB-1; ComponentLink1Description: Manufacturer URL; ComponentLink1URL: http://www.analog.com/en/index.html; ComponentLink2Description: Datasheet; ComponentLink2URL: http://www.analog.com/static/imported-files/data_sheets/AD8622_8624.pdf; ComponentLink3Description: Package Specification; ComponentLink3URL: http://www.analog.com/static/imported-files/packages/36057385283879153717235186773RU14.pdf
footprint ADI-RU-14_N (SOP, 14-Leads, Body 5x4.4mm, Pitch 0.65mm, IPC Medium Density)
footprint ADI-RU-14_L (SOP, 14-Leads, Body 5x4.4mm, Pitch 0.65mm, IPC High Density)
footprint ADI-RU-14_M (SOP, 14-Leads, Body 5x4.4mm, Pitch 0.65mm, IPC Low Density)
pins on every part: 4 +V (power), 11 -V (power)
part A pins: 1 OUT A (out), 2 -IN A (in), 3 +IN A (in)
part B pins: 5 +IN B (in), 6 -IN B (in), 7 OUT B (out)
part C pins: 8 OUT C (out), 9 -IN C (in), 10 +IN C (in)
part D pins: 12 +IN D (in), 13 -IN D (in), 14 OUT D (out)

## AD8625ARUZ
designator U?
Quad Channel Very Low Input Bias Current Operational Amplifier, 5 MHz BW, 5 V/us SR, Industrial, 14-pin SOP (RU-14), Tube; Generic Part Number: AD8625; Manufacturer: Analog Devices; PartNumber: AD8625ARUZ; Amplifiers Per Package: 4; Input Bias Current: 250fA; Input Offset Voltage: 50uV; Iq/Amp: 850uA; Slew Rate: 5V/us; Small Signal Bandwidth: 5MHz; V Span Max: 26V; V Span Min: 5V; DatasheetVersion: Rev. E; PackageReference: RU-14; PackageDescription: 14-Pin Thin Shrink Small Outline Package, Body 5 x 4.4 mm, Pitch 0.65 mm; Supplier 1: Digi-Key; Supplier Part Number 1: AD8625ARUZ-ND; Supplier 2: Newark; Supplier Part Number 2: 59K6979; Mounting Technology: Surface Mount; Code_JEDEC: MO-153AB-1; ComponentLink1Description: Manufacturer URL; ComponentLink1URL: http://www.analog.com/en/index.html; ComponentLink2Description: Datasheet; ComponentLink2URL: http://www.analog.com/static/imported-files/data_sheets/AD8625_8626_8627.pdf; ComponentLink3Description: Package Specification; ComponentLink3URL: http://www.analog.com/static/imported-files/packages/36057385283879153717235186773RU14.pdf
footprint ADI-RU-14_N (SOP, 14-Leads, Body 5x4.4mm, Pitch 0.65mm, IPC Medium Density)
footprint ADI-RU-14_L (SOP, 14-Leads, Body 5x4.4mm, Pitch 0.65mm, IPC High Density)
footprint ADI-RU-14_M (SOP, 14-Leads, Body 5x4.4mm, Pitch 0.65mm, IPC Low Density)
pins on every part: 4 +V (power), 11 -V (power)
part A pins: 1 OUT A (out), 2 -IN A (in), 3 +IN A (in)
part B pins: 5 +IN B (in), 6 -IN B (in), 7 OUT B (out)
part C pins: 8 OUT C (out), 9 -IN C (in), 10 +IN C (in)
part D pins: 12 +IN D (in), 13 -IN D (in), 14 OUT D (out)

## AD8625ARUZ-REEL
designator U?
Quad Channel Very Low Input Bias Current Operational Amplifier, 5 MHz BW, 5 V/us SR, Industrial, 14-pin SOP (RU-14), Reel; Generic Part Number: AD8625; Manufacturer: Analog Devices; PartNumber: AD8625ARUZ-REEL; Amplifiers Per Package: 4; Input Bias Current: 250fA; Input Offset Voltage: 50uV; Iq/Amp: 850uA; Slew Rate: 5V/us; Small Signal Bandwidth: 5MHz; V Span Max: 26V; V Span Min: 5V; DatasheetVersion: Rev. E; PackageReference: RU-14; PackageDescription: 14-Pin Thin Shrink Small Outline Package, Body 5 x 4.4 mm, Pitch 0.65 mm; Supplier 1: Digi-Key; Supplier Part Number 1: AD8625ARUZ-REEL-ND; Mounting Technology: Surface Mount; Code_JEDEC: MO-153AB-1; ComponentLink1Description: Manufacturer URL; ComponentLink1URL: http://www.analog.com/en/index.html; ComponentLink2Description: Datasheet; ComponentLink2URL: http://www.analog.com/static/imported-files/data_sheets/AD8625_8626_8627.pdf; ComponentLink3Description: Package Specification; ComponentLink3URL: http://www.analog.com/static/imported-files/packages/36057385283879153717235186773RU14.pdf
footprint ADI-RU-14_N (SOP, 14-Leads, Body 5x4.4mm, Pitch 0.65mm, IPC Medium Density)
footprint ADI-RU-14_L (SOP, 14-Leads, Body 5x4.4mm, Pitch 0.65mm, IPC High Density)
footprint ADI-RU-14_M (SOP, 14-Leads, Body 5x4.4mm, Pitch 0.65mm, IPC Low Density)
pins on every part: 4 +V (power), 11 -V (power)
part A pins: 1 OUT A (out), 2 -IN A (in), 3 +IN A (in)
part B pins: 5 +IN B (in), 6 -IN B (in), 7 OUT B (out)
part C pins: 8 OUT C (out), 9 -IN C (in), 10 +IN C (in)
part D pins: 12 +IN D (in), 13 -IN D (in), 14 OUT D (out)

## AD8625ARZ
designator U?
Quad Channel Very Low Input Bias Current Operational Amplifier, 5 MHz BW, 5 V/us SR, Industrial, 14-pin SOIC (R-14), Tube; Generic Part Number: AD8625; Manufacturer: Analog Devices; PartNumber: AD8625ARZ; Amplifiers Per Package: 4; Input Bias Current: 250fA; Input Offset Voltage: 50uV; Iq/Amp: 850uA; Slew Rate: 5V/us; Small Signal Bandwidth: 5MHz; V Span Max: 26V; V Span Min: 5V; DatasheetVersion: Rev. E; PackageVersion: 060606-A; PackageReference: R-14; PackageDescription: 14-Pin Standard Small Outline Package, Body 8.65 x 3.9 mm, Pitch 1.27 mm; Supplier 1: Digi-Key; Supplier Part Number 1: AD8625ARZ-ND; Supplier 2: Farnell; Supplier Part Number 2: 1581953; Supplier 3: Newark; Supplier Part Number 3: 59K6981; Mounting Technology: Surface Mount; Code_JEDEC: MS-012-AB; ComponentLink1Description: Manufacturer URL; ComponentLink1URL: http://www.analog.com/en/index.html; ComponentLink2Description: Datasheet; ComponentLink2URL: http://www.analog.com/static/imported-files/data_sheets/AD8625_8626_8627.pdf; ComponentLink3Description: Package Specification; ComponentLink3URL: http://www.analog.com/static/imported-files/packages/PKG_PDF/SOIC_Narrow%20(R)/R_14.pdf
footprint ADI-R-14_N (SOIC, 14-Leads, Body 8.65x3.9mm, Pitch 1.27mm, IPC Medium Density)
footprint ADI-R-14_L (SOIC, 14-Leads, Body 8.65x3.9mm, Pitch 1.27mm, IPC High Density)
footprint ADI-R-14_M (SOIC, 14-Leads, Body 8.65x3.9mm, Pitch 1.27mm, IPC Low Density)
pins on every part: 4 +V (power), 11 -V (power)
part A pins: 1 OUT A (out), 2 -IN A (in), 3 +IN A (in)
part B pins: 5 +IN B (in), 6 -IN B (in), 7 OUT B (out)
part C pins: 8 OUT C (out), 9 -IN C (in), 10 +IN C (in)
part D pins: 12 +IN D (in), 13 -IN D (in), 14 OUT D (out)

## AD8625ARZ-REEL
designator U?
Quad Channel Very Low Input Bias Current Operational Amplifier, 5 MHz BW, 5 V/us SR, Industrial, 14-pin SOIC (R-14), Reel; Generic Part Number: AD8625; Manufacturer: Analog Devices; PartNumber: AD8625ARZ-REEL; Amplifiers Per Package: 4; Input Bias Current: 250fA; Input Offset Voltage: 50uV; Iq/Amp: 850uA; Slew Rate: 5V/us; Small Signal Bandwidth: 5MHz; V Span Max: 26V; V Span Min: 5V; DatasheetVersion: Rev. E; PackageVersion: 060606-A; PackageReference: R-14; PackageDescription: 14-Pin Standard Small Outline Package, Body 8.65 x 3.9 mm, Pitch 1.27 mm; Supplier 1: Digi-Key; Supplier Part Number 1: AD8625ARZ-REEL-ND; Mounting Technology: Surface Mount; Code_JEDEC: MS-012-AB; ComponentLink1Description: Manufacturer URL; ComponentLink1URL: http://www.analog.com/en/index.html; ComponentLink2Description: Datasheet; ComponentLink2URL: http://www.analog.com/static/imported-files/data_sheets/AD8625_8626_8627.pdf; ComponentLink3Description: Package Specification; ComponentLink3URL: http://www.analog.com/static/imported-files/packages/PKG_PDF/SOIC_Narrow%20(R)/R_14.pdf
footprint ADI-R-14_N (SOIC, 14-Leads, Body 8.65x3.9mm, Pitch 1.27mm, IPC Medium Density)
footprint ADI-R-14_L (SOIC, 14-Leads, Body 8.65x3.9mm, Pitch 1.27mm, IPC High Density)
footprint ADI-R-14_M (SOIC, 14-Leads, Body 8.65x3.9mm, Pitch 1.27mm, IPC Low Density)
pins on every part: 4 +V (power), 11 -V (power)
part A pins: 1 OUT A (out), 2 -IN A (in), 3 +IN A (in)
part B pins: 5 +IN B (in), 6 -IN B (in), 7 OUT B (out)
part C pins: 8 OUT C (out), 9 -IN C (in), 10 +IN C (in)
part D pins: 12 +IN D (in), 13 -IN D (in), 14 OUT D (out)

## AD8625ARZ-REEL7
designator U?
Quad Channel Very Low Input Bias Current Operational Amplifier, 5 MHz BW, 5 V/us SR, Industrial, 14-pin SOIC (R-14), Reel; Generic Part Number: AD8625; Manufacturer: Analog Devices; PartNumber: AD8625ARZ-REEL7; Amplifiers Per Package: 4; Input Bias Current: 250fA; Input Offset Voltage: 50uV; Iq/Amp: 850uA; Slew Rate: 5V/us; Small Signal Bandwidth: 5MHz; V Span Max: 26V; V Span Min: 5V; DatasheetVersion: Rev. E; PackageVersion: 060606-A; PackageReference: R-14; PackageDescription: 14-Pin Standard Small Outline Package, Body 8.65 x 3.9 mm, Pitch 1.27 mm; Supplier 1: Digi-Key; Supplier Part Number 1: AD8625ARZ-REEL7-ND; Mounting Technology: Surface Mount; Code_JEDEC: MS-012-AB; ComponentLink1Description: Manufacturer URL; ComponentLink1URL: http://www.analog.com/en/index.html; ComponentLink2Description: Datasheet; ComponentLink2URL: http://www.analog.com/static/imported-files/data_sheets/AD8625_8626_8627.pdf; ComponentLink3Description: Package Specification; ComponentLink3URL: http://www.analog.com/static/imported-files/packages/PKG_PDF/SOIC_Narrow%20(R)/R_14.pdf
footprint ADI-R-14_N (SOIC, 14-Leads, Body 8.65x3.9mm, Pitch 1.27mm, IPC Medium Density)
footprint ADI-R-14_L (SOIC, 14-Leads, Body 8.65x3.9mm, Pitch 1.27mm, IPC High Density)
footprint ADI-R-14_M (SOIC, 14-Leads, Body 8.65x3.9mm, Pitch 1.27mm, IPC Low Density)
pins on every part: 4 +V (power), 11 -V (power)
part A pins: 1 OUT A (out), 2 -IN A (in), 3 +IN A (in)
part B pins: 5 +IN B (in), 6 -IN B (in), 7 OUT B (out)
part C pins: 8 OUT C (out), 9 -IN C (in), 10 +IN C (in)
part D pins: 12 +IN D (in), 13 -IN D (in), 14 OUT D (out)

## AD8626ARMZ
designator U?
Double Channel Very Low Input Bias Current Operational Amplifier, 5 MHz BW, 5 V/us SR, Industrial, 8-pin SOP (RM-8), Tube; Generic Part Number: AD8626; Manufacturer: Analog Devices; PartNumber: AD8626ARMZ; Amplifiers Per Package: 2; Input Bias Current: 250fA; Input Offset Voltage: 50uV; Iq/Amp: 850uA; Slew Rate: 5V/us; Small Signal Bandwidth: 5MHz; V Span Max: 26V; V Span Min: 5V; DatasheetVersion: Rev. E; PackageReference: RM-8; PackageDescription: 8-Pin Mini Small Outline Package, Body 3 x 3 mm, Pitch 0.65 mm; Supplier 1: Digi-Key; Supplier Part Number 1: AD8626ARMZ-ND; Supplier 2: Newark; Supplier Part Number 2: 45P6467; Mounting Technology: Surface Mount; Code_JEDEC: MO-187-AA; ComponentLink1Description: Manufacturer URL; ComponentLink1URL: http://www.analog.com/en/index.html; ComponentLink2Description: Datasheet; ComponentLink2URL: http://www.analog.com/static/imported-files/data_sheets/AD8625_8626_8627.pdf; ComponentLink3Description: Package Specification; ComponentLink3URL: http://www.analog.com/static/imported-files/packages/PKG_PDF/MSOP%28RM%29/RM_8.pdf
footprint ADI-RM-8_N (SOP, 8-Leads, Body 3x3mm, Pitch 0.65mm, IPC Medium Density)
footprint ADI-RM-8_L (SOP, 8-Leads, Body 3x3mm, Pitch 0.65mm, IPC High Density)
footprint ADI-RM-8_M (SOP, 8-Leads, Body 3x3mm, Pitch 0.65mm, IPC Low Density)
pins on every part: 4 -V (power), 8 +V (power)
part A pins: 1 OUT A (out), 2 -IN A (in), 3 +IN A (in)
part B pins: 5 +IN B (in), 6 -IN B (in), 7 OUT B (out)

## AD8626ARMZ-REEL
designator U?
Double Channel Very Low Input Bias Current Operational Amplifier, 5 MHz BW, 5 V/us SR, Industrial, 8-pin SOP (RM-8), Reel; Generic Part Number: AD8626; Manufacturer: Analog Devices; PartNumber: AD8626ARMZ-REEL; Amplifiers Per Package: 2; Input Bias Current: 250fA; Input Offset Voltage: 50uV; Iq/Amp: 850uA; Slew Rate: 5V/us; Small Signal Bandwidth: 5MHz; V Span Max: 26V; V Span Min: 5V; DatasheetVersion: Rev. E; PackageReference: RM-8; PackageDescription: 8-Pin Mini Small Outline Package, Body 3 x 3 mm, Pitch 0.65 mm; Supplier 1: Digi-Key; Supplier Part Number 1: AD8626ARMZ-REELTR-ND; Supplier 2: Digi-Key; Supplier Part Number 2: AD8626ARMZ-REELCT-ND; Supplier 3: Digi-Key; Supplier Part Number 3: AD8626ARMZ-REELDKR-ND; Supplier 4: Newark; Supplier Part Number 4: 59K6984; Mounting Technology: Surface Mount; Code_JEDEC: MO-187-AA; ComponentLink1Description: Manufacturer URL; ComponentLink1URL: http://www.analog.com/en/index.html; ComponentLink2Description: Datasheet; ComponentLink2URL: http://www.analog.com/static/imported-files/data_sheets/AD8625_8626_8627.pdf; ComponentLink3Description: Package Specification; ComponentLink3URL: http://www.analog.com/static/imported-files/packages/PKG_PDF/MSOP%28RM%29/RM_8.pdf
footprint ADI-RM-8_N (SOP, 8-Leads, Body 3x3mm, Pitch 0.65mm, IPC Medium Density)
footprint ADI-RM-8_L (SOP, 8-Leads, Body 3x3mm, Pitch 0.65mm, IPC High Density)
footprint ADI-RM-8_M (SOP, 8-Leads, Body 3x3mm, Pitch 0.65mm, IPC Low Density)
pins on every part: 4 -V (power), 8 +V (power)
part A pins: 1 OUT A (out), 2 -IN A (in), 3 +IN A (in)
part B pins: 5 +IN B (in), 6 -IN B (in), 7 OUT B (out)

## AD8626ARZ
designator U?
Double Channel Very Low Input Bias Current Operational Amplifier, 5 MHz BW, 5 V/us SR, Industrial, 8-pin SOIC (R-8), Tube; Generic Part Number: AD8626; Manufacturer: Analog Devices; PartNumber: AD8626ARZ; Amplifiers Per Package: 2; Input Bias Current: 250fA; Input Offset Voltage: 50uV; Iq/Amp: 850uA; Slew Rate: 5V/us; Small Signal Bandwidth: 5MHz; V Span Max: 26V; V Span Min: 5V; DatasheetVersion: Rev. E; PackageVersion: 060506-A; PackageReference: R-8; PackageDescription: 8-Pin Standard Small Outline Package, Body 3.9 x 4.9 mm, Pitch 1.27 mm; Supplier 1: Digi-Key; Supplier Part Number 1: AD8626ARZ-ND; Supplier 2: Farnell; Supplier Part Number 2: 1581954; Supplier 3: Newark; Supplier Part Number 3: 59K6986; Mounting Technology: Surface Mount; Code_JEDEC: MS-012-AA; ComponentLink1Description: Manufacturer URL; ComponentLink1URL: http://www.analog.com/en/index.html; ComponentLink2Description: Datasheet; ComponentLink2URL: http://www.analog.com/static/imported-files/data_sheets/AD8625_8626_8627.pdf; ComponentLink3Description: Package Specification; ComponentLink3URL: http://www.analog.com/static/imported-files/packages/PKG_PDF/SOIC_Narrow%20(R)/R_8.pdf
footprint ADI-R-8_N (SOIC, 8-Leads, Body 4.9x3.9mm, Pitch 1.27mm, IPC Medium Density)
footprint ADI-R-8_L (SOIC, 8-Leads, Body 4.9x3.9mm, Pitch 1.27mm, IPC High Density)
footprint ADI-R-8_M (SOIC, 8-Leads, Body 4.9x3.9mm, Pitch 1.27mm, IPC Low Density)
pins on every part: 4 -V (power), 8 +V (power)
part A pins: 1 OUT A (out), 2 -IN A (in), 3 +IN A (in)
part B pins: 5 +IN B (in), 6 -IN B (in), 7 OUT B (out)

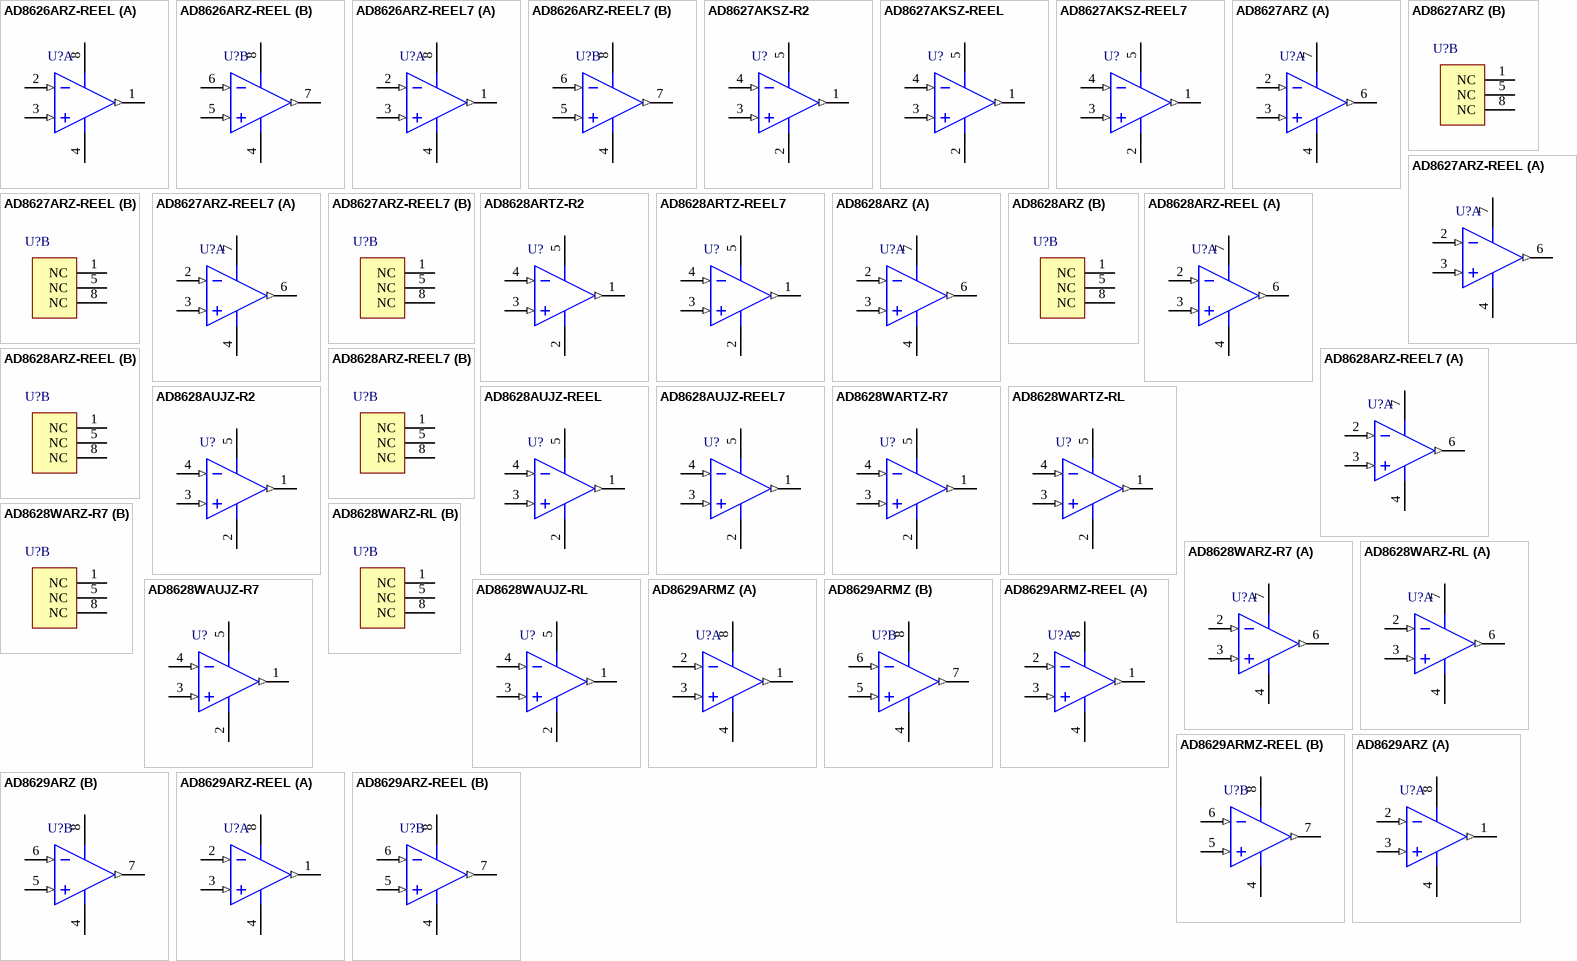
[diagram p56: symbols AD8626ARZ-REEL to AD8629ARZ-REEL]